# Altium schematic symbol library Library Led Yazaki.SCHLIB: 51 symbols
Pins are listed as number, name and electrical type; pins without a type are passive.

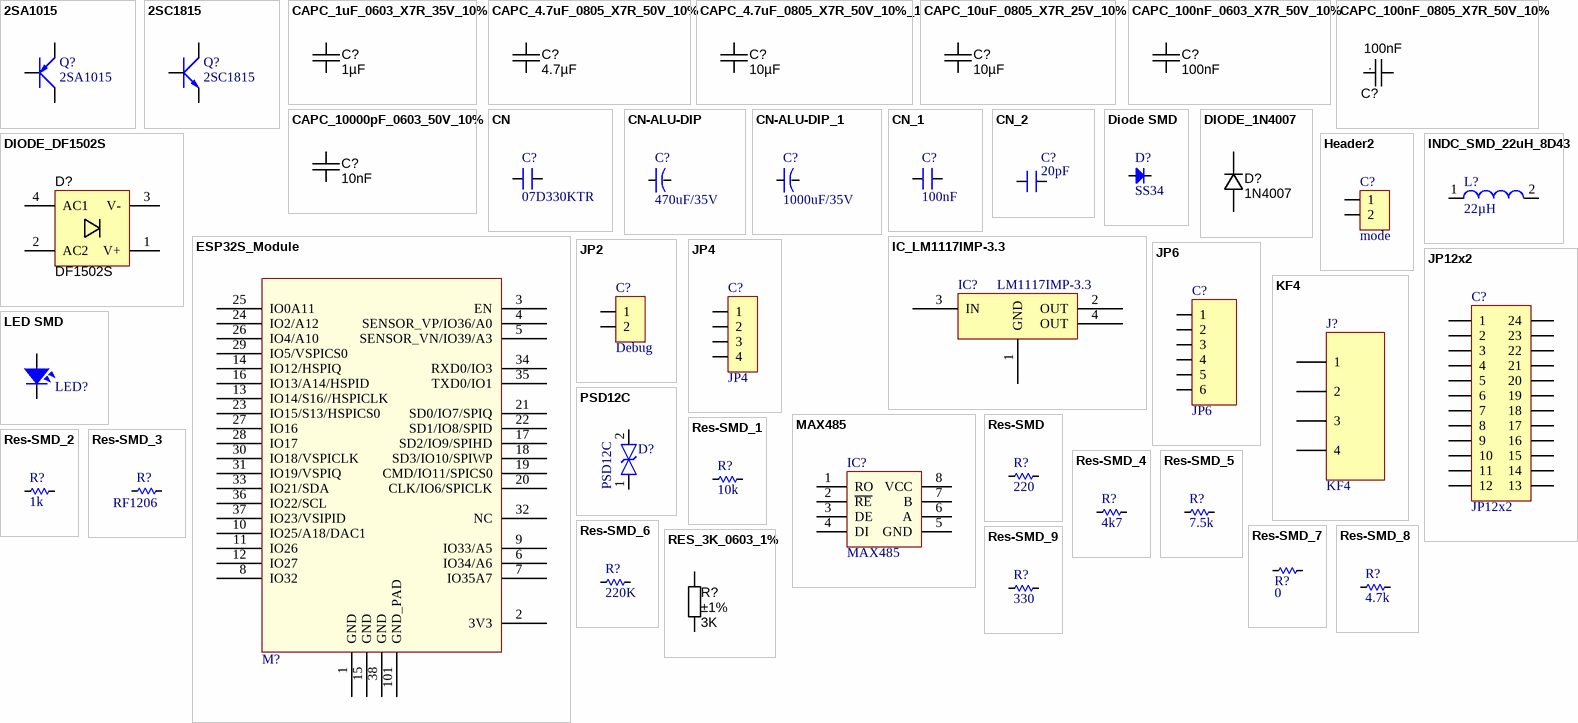
[diagram p0: symbols 2SA1015 to RES_3K_0603_1%]

## 2SA1015
designator Q?
PNP 600mW, ECB; Value: A1015
footprint TO92-123 (TO-92)
footprint SOT23-321
footprint TO92-123 - 1 (TO-92)
footprint TO92-123 - 2 (TO-92)
footprint TO92-123 - 3 (TO-92)
pins: 1 E, 2 C, 3 B

## 2SC1815
designator Q?
NPN 600mW, ECB; Value: C1815
footprint TO92-123 (TO-92)
footprint SOT23-321
footprint TO92-123 - 1 (TO-92)
footprint TO92-123 - 2 (TO-92)
footprint TO92-123 - 3 (TO-92)
pins: 1 E, 2 C, 3 B

## CAPC_1uF_0603_X7R_35V_10%
designator C?, comment 1µF
1µF ±10% 16V Ceramic Capacitor X7R 0603 (1608 Metric); Manufacturer 1: Taiyo Yuden; Manufacturer Part Number 1: GMK107AB7105KAHT; Voltage - Rated: 35V; Pcs 2: 10; Tolerance: ±10%; Operating Temperature: -55°C ~ 125°C; Package / Case: 0603 (1608 Metric); Temperature Coefficient: X7R; Ratings: AEC-Q200; Applications: Automotive; Packaging: Digi-Reel®; Supplier 1: Digi-Key; Supplier Part Number 1: 587-3352-6-ND; Supplier 2: http://www.tme.vn; Supplier Part Number 2: http://www.tme.vn/Product.aspx?id=728#page=pro_info; Price 2: 1800; Value: 1µF
footprint CAPC1608X90N (Chip Capacitor, Body 1.6x0.8mm, EIA 0603, IPC Medium Density)
pins: 1, 2

## CAPC_4.7uF_0805_X7R_50V_10%
designator C?, comment 4.7µF
4.7µF ±10% 50V Ceramic Capacitor X7R 0805 (2012 Metric); Manufacturer 1: TDK Corporation; Manufacturer Part Number: CGA4J1X7R1H475K125AE; Pcs 2: 1; Package / Case: 0805 (2012 metric); Tolerance: ±10%; Voltage - Rated: 50V; Temperature Coefficient: X7R; Ratings: AEC-Q200; Operating Temperature: -55°C ~ 125°C; Supplier 1: Digi-Key; Supplier Part Number 1: 445-181410-6-ND; Supplier 2: https://www.thegioiic.com; Supplier Part Number 2: https://www.thegioiic.com/products/tu-gom-0805-4-7uf-50v; Price 2: 680; Value: 4.7µF
footprint CAPC2012X135N (Chip Capacitor, Body 2.0x1.2mm, 0805, IPC Medium Density)
pins: 1, 2

## CAPC_4.7uF_0805_X7R_50V_10%_1
designator C?, comment 10µF
4.7µF ±10% 50V Ceramic Capacitor X7R 0805 (2012 Metric); Manufacturer 1: TDK Corporation; Manufacturer Part Number: CGA4J1X7R1H475K125AE; Pcs 2: 1; Package / Case: 0805 (2012 metric); Tolerance: ±10%; Voltage - Rated: 50V; Temperature Coefficient: X7R; Ratings: AEC-Q200; Operating Temperature: -55°C ~ 125°C; Supplier 1: Digi-Key; Supplier Part Number 1: 445-181410-6-ND; Supplier 2: https://www.thegioiic.com; Supplier Part Number 2: https://www.thegioiic.com/products/tu-gom-0805-4-7uf-50v; Price 2: 680; Value: 10µF
footprint CAPC2012X135N (Chip Capacitor, Body 2.0x1.2mm, 0805, IPC Medium Density)
pins: 1, 2

## CAPC_10uF_0805_X7R_25V_10%
designator C?, comment 10µF
10µF ±10% 25V Ceramic Capacitor X7R 1206 (3216 Metric); Manufacturer 1: Taiyo Yuden; Manufacturer Part Number: TMK316AB7106KLHT; Pcs 2: 10; Supplier 1: Digi-Key; Supplier Part Number 1: 587-3485-6-ND; Tolerance: ±10%; Operating Temperature: -55°C ~ 125°C; Package / Case: 0805 (2012 metric); Voltage - Rated: 25V; Ratings: AEC-Q200; Temperature Coefficient: X7R; Supplier 2: https://www.thegioiic.com; Supplier Part Number 2: https://www.thegioiic.com/products/tu-gom-0805-10uf-25v; Price 2: 5800; Value: 10µF
footprint CAPC2012X135N (Chip Capacitor, Body 2.0x1.2mm, 0805, IPC Medium Density)
pins: 1, 2

## CAPC_100nF_0603_X7R_50V_10%
designator C?, comment 100nF
0.1µF ±10% 50V Ceramic Capacitor X7R 0603 (1608 Metric); Manufacturer 1: TDK Corporation; Manufacturer Part Number 1: CGA3E2X7R1H104K080AA; Pcs 2: 10; Supplier 1: Digi-Key; Supplier Part Number 1: 445-5666-6-ND; Tolerance: ±10%; Operating Temperature: -55°C ~ 125°C; Package / Case: 0603 (1608 Metric); Voltage - Rated: 50V; Ratings: AEC-Q200; Temperature Coefficient: X7R; Applications: Automotive; Packaging: Digi-Reel®; Supplier 2: www.thegioiic.com; Supplier Part Number 2: https://www.thegioiic.com/products/tu-gom-0603-100nf-0-1uf-50v; Price 2: 1800; Value: 100nF
footprint CAPC1608X90N (Chip Capacitor, Body 1.6x0.8mm, EIA 0603, IPC Medium Density)
pins: 1, 2

## CAPC_100nF_0805_X7R_50V_10%
designator C?, comment 100nF
0.1µF ±10% 50V Ceramic Capacitor X7R 0805 (2012 Metric); Manufacturer 1: Samsung Electro-Mechanics; Manufacturer Part Number: CL21B104KBFXPJE; Pcs 2: 10; Supplier 1: Digi-Key; Supplier Part Number 1: 1276-CL21B104KBFXPJEDKR-ND; Tolerance: ±10%; Operating Temperature: -55°C ~ 125°C; Package / Case: 0805 (2012 metric); Voltage - Rated: 50V; Ratings: AEC-Q200; Temperature Coefficient: X7R; Price 2: 2000; Supplier 2: https://www.thegioiic.com; Supplier Part Number 2: https://www.thegioiic.com/products/tu-gom-0805-100nf-0-1uf-50v; Value: 100nF
footprint CAPC2012X135N (Chip Capacitor, Body 2.0x1.2mm, 0805, IPC Medium Density)
pins: 1, 2
text: .

## CAPC_10000pF_0603_50V_10%
designator C?, comment 10nF
10000pF ±10% 50V Ceramic Capacitor X7R 0603 (1608 Metric); Manufacturer 1: TDK Corporation; Manufacturer Part Number 1: CGA3E2X7R1H103K080AA; Pcs 2: 10; Tolerance: ±10%; Operating Temperature: -55°C ~ 125°C; Package / Case: 0603 (1608 Metric); Voltage - Rated: 50V; Ratings: AEC-Q200; Temperature Coefficient: X7R; Supplier Part Number 1: 445-5662-6-ND; Supplier 1: Digi-Key; Supplier 2: https://www.thegioiic.com; Supplier Part Number 2: https://www.thegioiic.com/products/tu-gom-0603-10nf-50v; Price 2: 1900; Value: 10nF
footprint CAPC1608X90N (Chip Capacitor, Body 1.6x0.8mm, EIA 0603, IPC Medium Density)
pins: 1, 2

## CN
designator C?, comment 07D330KTR
Value: 33pF
footprint CN1.5
footprint CN1
footprint CN2.5 (Tu pin to pin 250mil)
footprint CN3 (Cap np W 0.3)
footprint CN-SMD-0603
footprint CN-SMD-0805
footprint CN-SMD-0402
footprint CN-SMD-1206
footprint CN-SMD-2520 (TOKO INDUCTOR DFE252012 SERIES)
footprint CN-SMD-3225 (Chip Capacitor, Body 3.2x2.5mm, IPC Medium Density)
footprint CN2-T
footprint CN2-G
footprint CN0.8
footprint CN1-TA
footprint CN2-B
footprint CN2-LT
footprint CN2-O
footprint CN2-R
footprint CN2.5-BR (Tu pin to pin 250mil)
footprint CN2.5-R (Tu pin to pin 250mil)
footprint CN2.5-RV (Tu pin to pin 250mil)
footprint CN3.5 (Cap np W 0.3)
footprint CN4
footprint CN7 (Cap np W 0.3)
footprint CN3-B (Cap np W 0.3)
footprint CN7-B (Cap np W 0.3)
footprint CN7-N (Cap np W 0.3)
footprint CN7-Y (Cap np W 0.3)
footprint CN15 (Cap np W 0.3)
pins: 1, 2

## CN-ALU-DIP
designator C?, comment 470uF/35V
Capacitor (Semiconductor SIM Model); Value: 104; LatestRevisionDate: 17-Jul-2002; LatestRevisionNote: Re-released for DXP Platform.; PackageReference: C1206; Publisher: Altium Limited
footprint CA-ALU-2.54
footprint CA-ALU-5 (Polarized capacitors, Aluminum Electrolytic Capacitors, 2-Leads, Body 5x11x2x0.5)
footprint CA-ALU-5B (Polarized capacitors, Aluminum Electrolytic Capacitors, 2-Leads, Body 5x11x2x0.5)
footprint CA-ALU-5L (Polarized capacitors, Aluminum Electrolytic Capacitors, 2-Leads, Body 5x11x2x0.5)
footprint CA-ALU-5R
footprint CA-ALU-5W (Tu hoa < 22uF/16>50V)
footprint CA-ALU-6.3 (Polarized capacitors, Aluminum Electrolytic Capacitors, 2-Leads, Body 6.3x15x2.5x0.5)
footprint CA-ALU-8 (Polarized capacitors, Aluminum Electrolytic Capacitors, 2-Leads, Body 8x16x3.5x0.5)
footprint CA-ALU-8R (Polarized capacitors, Aluminum Electrolytic Capacitors, 2-Leads, Body 8x16x3.5x0.5)
footprint CA-ALU-10 (Polarized capacitors, Aluminum Electrolytic Capacitors, 2-Leads, Body 10x20x5x0.6)
footprint CA-ALU-10R (Polarized capacitors, Aluminum Electrolytic Capacitors, 2-Leads, Body 10x20x5x0.6)
footprint CA-ALU-10RL (Polarized capacitors, Aluminum Electrolytic Capacitors, 2-Leads, Body 10x20x5x0.6)
footprint CA-ALU-13BL (Polarized capacitors, Aluminum Electrolytic Capacitors, 2-Leads, Body 13x35x5x0.6)
footprint CA-ALU-13R (Polarized capacitors, Aluminum Electrolytic Capacitors, 2-Leads, Body 13x35x5x0.6)
footprint CA-ALU-16 (Polarized capacitors, Aluminum Electrolytic Capacitors, 2-Leads, Body 16x21x7.5x0.8)
footprint CA-ALU-16H (Polarized capacitors, Aluminum Electrolytic Capacitors, 2-Leads, Body 16x31.5x7.5x0.8)
footprint CA-ALU-18 (Polarized capacitors, Aluminum Electrolytic Capacitors, 2-Leads, Body 18x35.5x7.5x0.8)
footprint CA-ALU-18BL (Polarized capacitors, Aluminum Electrolytic Capacitors, 2-Leads, Body 18x35.5x7.5x0.8)
footprint CA-ALU-18RH (Polarized capacitors, Aluminum Electrolytic Capacitors, 2-Leads, Body 18x35.5x7.5x0.8)
footprint CA-ALU-25 (Polarized capacitors, Aluminum Electrolytic Capacitors, 2-Leads, Body 22x41x10x0.8)
footprint CA-ALU-28 (Polarized capacitors, Aluminum Electrolytic Capacitors, 2-Leads, Body 22x41x10x0.8)
footprint CA-ALU-30 (Polarized capacitors, Aluminum Electrolytic Capacitors, 2-Leads, Body 22x41x10x0.8)
footprint CA-ALU-35L (Polarized capacitors, Aluminum Electrolytic Capacitors, 2-Leads, Body 22x41x10x0.8)
footprint CA-ALU-4 (Polarized capacitors, Aluminum Electrolytic Capacitors, 2-Leads, Body 5x11x2x0.5)
footprint CA-ALU-6.3R (Polarized capacitors, Aluminum Electrolytic Capacitors, 2-Leads, Body 6.3x15x2.5x0.5)
footprint CA-ALU-10BL (Polarized capacitors, Aluminum Electrolytic Capacitors, 2-Leads, Body 10x20x5x0.6)
footprint CA-ALU-10GR (Polarized capacitors, Aluminum Electrolytic Capacitors, 2-Leads, Body 10x20x5x0.6)
footprint CA-ALU-18R (Polarized capacitors, Aluminum Electrolytic Capacitors, 2-Leads, Body 18x35.5x7.5x0.8)
footprint CA-ALU-28R (Polarized capacitors, Aluminum Electrolytic Capacitors, 2-Leads, Body 22x41x10x0.8)
pins: 1, 2

## CN-ALU-DIP_1
designator C?, comment 1000uF/35V
Capacitor (Semiconductor SIM Model); Value: 104; LatestRevisionDate: 17-Jul-2002; LatestRevisionNote: Re-released for DXP Platform.; PackageReference: C1206; Publisher: Altium Limited
footprint CA-ALU-2.54
footprint CA-ALU-5 (Polarized capacitors, Aluminum Electrolytic Capacitors, 2-Leads, Body 5x11x2x0.5)
footprint CA-ALU-5B (Polarized capacitors, Aluminum Electrolytic Capacitors, 2-Leads, Body 5x11x2x0.5)
footprint CA-ALU-5L (Polarized capacitors, Aluminum Electrolytic Capacitors, 2-Leads, Body 5x11x2x0.5)
footprint CA-ALU-5R
footprint CA-ALU-5W (Tu hoa < 22uF/16>50V)
footprint CA-ALU-6.3 (Polarized capacitors, Aluminum Electrolytic Capacitors, 2-Leads, Body 6.3x15x2.5x0.5)
footprint CA-ALU-8 (Polarized capacitors, Aluminum Electrolytic Capacitors, 2-Leads, Body 8x16x3.5x0.5)
footprint CA-ALU-8R (Polarized capacitors, Aluminum Electrolytic Capacitors, 2-Leads, Body 8x16x3.5x0.5)
footprint CA-ALU-10 (Polarized capacitors, Aluminum Electrolytic Capacitors, 2-Leads, Body 10x20x5x0.6)
footprint CA-ALU-10R (Polarized capacitors, Aluminum Electrolytic Capacitors, 2-Leads, Body 10x20x5x0.6)
footprint CA-ALU-10RL (Polarized capacitors, Aluminum Electrolytic Capacitors, 2-Leads, Body 10x20x5x0.6)
footprint CA-ALU-13BL (Polarized capacitors, Aluminum Electrolytic Capacitors, 2-Leads, Body 13x35x5x0.6)
footprint CA-ALU-13R (Polarized capacitors, Aluminum Electrolytic Capacitors, 2-Leads, Body 13x35x5x0.6)
footprint CA-ALU-16 (Polarized capacitors, Aluminum Electrolytic Capacitors, 2-Leads, Body 16x21x7.5x0.8)
footprint CA-ALU-16H (Polarized capacitors, Aluminum Electrolytic Capacitors, 2-Leads, Body 16x31.5x7.5x0.8)
footprint CA-ALU-18 (Polarized capacitors, Aluminum Electrolytic Capacitors, 2-Leads, Body 18x35.5x7.5x0.8)
footprint CA-ALU-18BL (Polarized capacitors, Aluminum Electrolytic Capacitors, 2-Leads, Body 18x35.5x7.5x0.8)
footprint CA-ALU-18RH (Polarized capacitors, Aluminum Electrolytic Capacitors, 2-Leads, Body 18x35.5x7.5x0.8)
footprint CA-ALU-25 (Polarized capacitors, Aluminum Electrolytic Capacitors, 2-Leads, Body 22x41x10x0.8)
footprint CA-ALU-28 (Polarized capacitors, Aluminum Electrolytic Capacitors, 2-Leads, Body 22x41x10x0.8)
footprint CA-ALU-30 (Polarized capacitors, Aluminum Electrolytic Capacitors, 2-Leads, Body 22x41x10x0.8)
footprint CA-ALU-35L (Polarized capacitors, Aluminum Electrolytic Capacitors, 2-Leads, Body 22x41x10x0.8)
footprint CA-ALU-4 (Polarized capacitors, Aluminum Electrolytic Capacitors, 2-Leads, Body 5x11x2x0.5)
footprint CA-ALU-6.3R (Polarized capacitors, Aluminum Electrolytic Capacitors, 2-Leads, Body 6.3x15x2.5x0.5)
footprint CA-ALU-10BL (Polarized capacitors, Aluminum Electrolytic Capacitors, 2-Leads, Body 10x20x5x0.6)
footprint CA-ALU-10GR (Polarized capacitors, Aluminum Electrolytic Capacitors, 2-Leads, Body 10x20x5x0.6)
footprint CA-ALU-18R (Polarized capacitors, Aluminum Electrolytic Capacitors, 2-Leads, Body 18x35.5x7.5x0.8)
footprint CA-ALU-28R (Polarized capacitors, Aluminum Electrolytic Capacitors, 2-Leads, Body 22x41x10x0.8)
pins: 1, 2

## CN_1
designator C?, comment 100nF
Value: 33pF
footprint CN1.5
footprint CN1
footprint CN2.5 (Tu pin to pin 250mil)
footprint CN3 (Cap np W 0.3)
footprint CN-SMD-0603
footprint CN-SMD-0805
footprint CN-SMD-0402
footprint CN-SMD-1206
footprint CN-SMD-2520 (TOKO INDUCTOR DFE252012 SERIES)
footprint CN-SMD-3225 (Chip Capacitor, Body 3.2x2.5mm, IPC Medium Density)
footprint CN2-T
footprint CN2-G
footprint CN0.8
footprint CN1-TA
footprint CN2-B
footprint CN2-LT
footprint CN2-O
footprint CN2-R
footprint CN2.5-BR (Tu pin to pin 250mil)
footprint CN2.5-R (Tu pin to pin 250mil)
footprint CN2.5-RV (Tu pin to pin 250mil)
footprint CN3.5 (Cap np W 0.3)
footprint CN4
footprint CN7 (Cap np W 0.3)
footprint CN3-B (Cap np W 0.3)
footprint CN7-B (Cap np W 0.3)
footprint CN7-N (Cap np W 0.3)
footprint CN7-Y (Cap np W 0.3)
footprint CN15 (Cap np W 0.3)
pins: 1, 2

## CN_2
designator C?, comment 20pF
Value: 33pF
footprint CN1.5
footprint CN1
footprint CN2.5 (Tu pin to pin 250mil)
footprint CN3 (Cap np W 0.3)
footprint CN-SMD-0603
footprint CN-SMD-0805
footprint CN-SMD-0402
footprint CN-SMD-1206
footprint CN-SMD-2520 (TOKO INDUCTOR DFE252012 SERIES)
footprint CN-SMD-3225 (Chip Capacitor, Body 3.2x2.5mm, IPC Medium Density)
footprint CN2-T
footprint CN2-G
footprint CN0.8
footprint CN1-TA
footprint CN2-B
footprint CN2-LT
footprint CN2-O
footprint CN2-R
footprint CN2.5-BR (Tu pin to pin 250mil)
footprint CN2.5-R (Tu pin to pin 250mil)
footprint CN2.5-RV (Tu pin to pin 250mil)
footprint CN3.5 (Cap np W 0.3)
footprint CN4
footprint CN7 (Cap np W 0.3)
footprint CN3-B (Cap np W 0.3)
footprint CN7-B (Cap np W 0.3)
footprint CN7-N (Cap np W 0.3)
footprint CN7-Y (Cap np W 0.3)
footprint CN15 (Cap np W 0.3)
pins: 1, 2

## Diode SMD
designator D?, comment SS34
Default Diode; Code - JEDEC: DO-214-AB; Value: 1N5007; Published: 8-Jun-2000; Revision: July-2002: Re-released for DXP Platform.; Publisher: Altium Limited
footprint DIO-SMD-106
footprint DIO-SMD-123
footprint DIO-SMD-A
footprint DIO-SMD-B (Magnetic-Core Inductor with Winding Polarity Marking; 2 Leads)
footprint DIO-SMD-216AA (DO216AA ST-MITE)
footprint DIO-SMD-222AA (DO216AA ST-MITE)
pins: 1 A, 2 K

## DIODE_1N4007
designator D?, comment 1N4007
Diode  Standard Rectifier SMD 1000V 1A SMA; Manufacturer 1: Micro Commercial Co; Manufacturer Part Number 1: SM4007PL-TP; Speed: Standard Recovery >500ns, > 200mA (Io); Ratings: 1000V; 1A; Pcs 2: 1; Package / Case: DO-214AC, SMA; Diode Type: Standard; Mounting Type: Surface Mount; Supplier 1: Digi-Key; Supplier Part Number 1: SM4007PL-TPMSDKR-ND; Supplier 2: https://www.thegioiic.com; Supplier Part Number 2: https://www.thegioiic.com/products/1n4007-m7-diode-chinh-luu-1a-1kv; Price 2: 1000
footprint DO-214AC (JEDEC DO214 variation AC. SMA)
pins: A, C

## DIODE_DF1502S
designator D?, comment DF1502S
Bridge Rectifier Single Phase Standard 200V Surface Mount DF-S; Manufacturer 1: Diodes Incorporated; Manufacturer Part Number 1: DF1502S-T; Ratings: 200V; 1.5A; Pcs 2: 1; Package / Case: 4-SMD, Gull Wing; Diode Type: Standard; Mounting Type: Surface Mount; Supplier 1: Digi-Key; Supplier Part Number 1: DF1502SDIDKR-ND; Supplier 2: https://www.thegioiic.com; Supplier Part Number 2: https://www.thegioiic.com/products/df1502s-cau-chinh-luu-200v-1-5a; Price 2: 3500
footprint DIODE_DF_S
footprint DIODE_DF_S
pins: 1 V+, 2 AC2, 3 V-, 4 AC1

## ESP32S_Module
designator M?  (value not drawn)
Esp-32S; Datasheet: https://espressif.com/sites/default/files/documentation/esp_wroom_32_datasheet_en.pdf
footprint ESP32S_W (Esp32S Module wide for hand soldering)
footprint ESP32S
pins: 1 GND (power), 2 3V3 (power), 3 EN (power), 4 SENSOR_VP/IO36/A0, 5 SENSOR_VN/IO39/A3, 6 IO34/A6, 7 IO35A7, 8 IO32, 9 IO33/A5, 10 IO25/A18/DAC1, 11 IO26, 12 IO27, 13 IO14/S16//HSPICLK, 14 IO12/HSPIQ, 15 GND (power), 16 IO13/A14/HSPID, 17 SD2/IO9/SPIHD, 18 SD3/IO10/SPIWP, 19 CMD/IO11/SPICS0, 20 CLK/IO6/SPICLK, 21 SD0/IO7/SPIQ, 22 SD1/IO8/SPID, 23 IO15/S13/HSPICS0, 24 IO2/A12, 25 IO0A11, 26 IO4/A10, 27 IO16, 28 IO17, 29 IO5/VSPICS0, 30 IO18/VSPICLK, 31 IO19/VSPIQ, 32 NC, 33 IO21/SDA, 34 RXD0/IO3, 35 TXD0/IO1, 36 IO22/SCL, 37 IO23/VSIPID, 38 GND (power), 101 GND_PAD (power)

## Header2
designator C?, comment mode
Header IDC, 2 x 1 Pin Vertical 2.54mm Pitch (Non-Boxed, Male); Manufacturer: W¨¹rth Elektronik eiSos GmbH; partNo: 613002143121; ComponentLink1 Description: Manufacturer; ComponentLink2 Description: Datasheet; NoPins: 02; Created Date: 29 March 2013; ComponentLink1URL: http://www.we-online.com; ComponentLink2URL: http://katalog.we-online.de/em/datasheet/6130xx143121.pdf; Created by: Karrer Zheng
footprint HDR2 (Connector; Header; 2 Position)
footprint Header2 (CON2)
pins: 1, 2

## IC_LM1117IMP-3.3
designator IC?, comment LM1117IMP-3.3
Linear Voltage Regulator IC  1 Output  800mA SOT-223; Manufacturer: Texas Instruments; Manufacturer Part Number: LM1117IMP-3.3/NOPB; Voltage - Input (Max): 15V; Voltage Dropout (Max): 1.2V @ 800mA; Protection Features: Over Current, Over Temperature; PSRR: 75dB (120Hz); Pcs 2: 1; Supplier 1: Digi-Key; Supplier Part Number 1: LM1117IMP-3.3/NOPBDKR-ND; Current - Output: 800mA; Operating Temperature: -40°C ~ 125°C; Price 2: 11000; Supplier Device Package: SOT-223; Supplier 2: https://www.thegioiic.com; Supplier Part Number 2: https://www.thegioiic.com/products/lm1117imp-3-3-nopb-ic-on-ap-3-3v-800ma
footprint SOT223 (SOT223 /SC-73)
pins: 1 GND, 2 OUT, 3 IN, 4 OUT

## INDC_SMD_22uH_8D43
designator L?, comment 22µH
22µH Shielded Wirewound Inductor 950mA 380mOhm Max Nonstandard; Manufacturer 1: Yageo; Current Rating (Amps): 3.25 A; Ratings: None AEC-Q200; Pcs 2: 1; Supplier 1: Digi-Key; Operating Temperature: -40°C ~ 125°C; Value: 22µH; Supplier 2: https://www.thegioiic.com/; Supplier Part Number 2: https://www.thegioiic.com/products/cuon-cam-dan-smd-8d43-220-22uh-3-25a; Price 2: 2000
footprint IND_COIL_8D43 (8.3x8.3x4.3)
pins: 1, 2

## JP2
designator C?, comment Debug
WR-PHD 2.54 mm Angled Socket Header; Manufacturer: W¨¹rth Elektronik eiSos GmbH; partNo: 613002143121; ComponentLink1 Description: Manufacturer; ComponentLink2 Description: Datasheet; NoPins: 02; Created Date: 29 March 2013; ComponentLink1URL: http://www.we-online.com; ComponentLink2URL: http://katalog.we-online.de/em/datasheet/6130xx143121.pdf; Created by: Karrer Zheng
footprint JP2-C1T (2 row, straight, gold plating)
footprint JP2-CLOSED
footprint JP2-C1C (02p 1 row Right angle)
footprint JP2-D1C (2 pins, 1 row, right angled, gold plating)
footprint JP2-D1T (2 pins, 1 row, straight, gold plating)
pins: 1, 2

## JP4
designator C?
WR-PHD 2.54 mm Angled Socket Header; Manufacturer: W¨¹rth Elektronik eiSos GmbH; partNo: 613004143121; ComponentLink1 Description: Manufacturer; ComponentLink2 Description: Datasheet; NoPins: 04; Created Date: 29 March 2013; ComponentLink1URL: http://www.we-online.com; ComponentLink2URL: http://katalog.we-online.de/em/datasheet/6130xx143121.pdf; Created by: Karrer Zheng
footprint JP4-C1T (4 row, straight, gold plating)
footprint JP4-D1C (4 pins, 1 row, right angled, gold plating)
footprint JP4-C1C (04p 1 row Right angle)
footprint JP4-D1C (4 pins, 1 row, right angled, gold plating)
pins: 1, 2, 3, 4

## JP6
designator C?
WR-PHD 2.54 mm Angled Socket Header; Manufacturer: W¨¹rth Elektronik eiSos GmbH; partNo: 613006143121; ComponentLink1 Description: Manufacturer; ComponentLink2 Description: Datasheet; NoPins: 06; Created Date: 29 March 2013; ComponentLink1URL: http://www.we-online.com; ComponentLink2URL: http://katalog.we-online.de/em/datasheet/6130xx143121.pdf; Created by: Karrer Zheng
footprint JP6-C1T (6 row, straight, gold plating)
footprint JP6-D1C (6 pins, 1 row, right angled, gold plating)
footprint JP6-C1C (06p 1 row Right angle)
footprint JP6-D1T (6 pins, 1 row, straight, gold plating)
pins: 1, 2, 3, 4, 5, 6

## JP12x2
designator C?
WR-PHD 2.54 mm Dual Socket Header; Manufacturer: W¨¹rth Elektronik eiSos GmbH; partNo: 61302421821; ComponentLink1 Description: Manufacturer; ComponentLink2 Description: Datasheet; NoPins: 24; Created Date: 29 March 2013; ComponentLink1URL: http://www.we-online.com; ComponentLink2URL: http://katalog.we-online.de/em/datasheet/6130xx21821.pdf; Created by: Karrer Zheng
footprint JP12-C2T (24 pins, dual row, straight, gold plating)
footprint JP12-C2C (24p 2 rows Right angle)
footprint JP12-D2T (24 pins, dual pin, straight, gold plating)
footprint JP12-D2C (24 pins, dual row, right angled, gold plating)
pins: 1, 2, 3, 4, 5, 6, 7, 8, 9, 10, 11, 12, 13, 14, 15, 16, 17, 18, 19, 20, 21, 22, 23, 24

## KF4
designator J?
Manufacturer: W¨¹rth Elektronik eiSos GmbH; PartNo: 691133710004; ComponentLink1 Description: Manufacturer; ComponentLink2 Description: Datasheet; NoPins: 4; ComponentLink1 URL: http://www.we-online.com; ComponentLink2 URL: http://katalog.we-online.de/em/datasheet/6911337100xx.pdf; Created By: Baojun Chen; Created Date: 4-Aug-15
footprint KF4-5.08
footprint KF4-10 (Serie 1368 - 10.00 mm _ 4 pins)
footprint KF4-5 (Serie 1337 - 5.00 mm_4 pins)
footprint KF4-8.5
footprint KF4-5.08T (Header 4, 4 pin, hight 300mil, Pin to Pin 200, Colour Green)
footprint KF4-7.62
pins: 1, 2, 3, 4

## LED SMD
designator LED?, comment LED  (value not drawn)
Value: LED 3 - 5 ly 2 Colour
footprint LED 3512
footprint LED-0805-Blue
footprint LED-0805-Green
footprint LED-0805-Orange
footprint LED-1206-Blue (Compoment SMD 120x60mil)
footprint LED-0805-Yellow
footprint LED-0805-Red
footprint LED-1206-Green
footprint LED-1206-Orange
footprint LED-1206-Red
footprint LED-1206-Yellow
footprint LED-BLUE 0805
footprint LED-GREEN-0805
footprint LED-ORANGE-0805
footprint LED-RED-0805
footprint LED-WHITE-0805
footprint LED-YELLOW-0805
pins: 1, 2

## MAX485
designator IC?
RS232 - RS485 (Same sn75176)
footprint DIP8
footprint SO8 (SOIC, 8-Leads, Body 4.9x3.9mm, Pitch 1.27mm, IPC High Density)
pins: 1 RO "Receiver Output", 2 ~{RE} "Receiver Enable Output", 3 DE "Driver Enable Output", 4 DI "Driver Input", 5 GND, 6 A "RI & NoneDO", 7 B "NoneDI", 8 VCC

## PSD12C
designator D?
diode tvs
footprint PSD12C (Molded Diode, 2-Leads, Body 2.60x1.35mm, IPC Medium Density)
pins: 1, 2

## Res-SMD
designator R?, comment 220
Resistor; Manufacturer: Generic Components; Class: Passive; Published: 08/06/2000; Publisher: Altium Hobart Technology Centre
footprint RES-SMD-0101
footprint RES-SMD-0201
footprint RES-SMD-0603
footprint RES-SMD-0805
footprint RES-SMD-1206
footprint RES-SMD-1210 (Chip Capacitor, Body 3.2x2.5mm, IPC Medium Density)
footprint RES-SMD-1812 (Chip Capacitor, Body 3.2x2.5mm, IPC Medium Density)
footprint RES-SMD-2010 (Chip Capacitor, Body 3.2x2.5mm, IPC Medium Density)
footprint RES-SMD-2512 (Chip Capacitor, Body 3.2x2.5mm, IPC Medium Density)
footprint RES-SMD-0402
pins: 1, 2

## Res-SMD_1
designator R?, comment 10k
Resistor; Manufacturer: Generic Components; Class: Passive; Published: 08/06/2000; Publisher: Altium Hobart Technology Centre
footprint RES-SMD-0101
footprint RES-SMD-0201
footprint RES-SMD-0603
footprint RES-SMD-0805
footprint RES-SMD-1206
footprint RES-SMD-1210 (Chip Capacitor, Body 3.2x2.5mm, IPC Medium Density)
footprint RES-SMD-1812 (Chip Capacitor, Body 3.2x2.5mm, IPC Medium Density)
footprint RES-SMD-2010 (Chip Capacitor, Body 3.2x2.5mm, IPC Medium Density)
footprint RES-SMD-2512 (Chip Capacitor, Body 3.2x2.5mm, IPC Medium Density)
footprint RES-SMD-0402
pins: 1, 2

## Res-SMD_2
designator R?, comment 1k
Resistor; Manufacturer: Generic Components; Class: Passive; Published: 08/06/2000; Publisher: Altium Hobart Technology Centre
footprint RES-SMD-0101
footprint RES-SMD-0201
footprint RES-SMD-0603
footprint RES-SMD-0805
footprint RES-SMD-1206
footprint RES-SMD-1210 (Chip Capacitor, Body 3.2x2.5mm, IPC Medium Density)
footprint RES-SMD-1812 (Chip Capacitor, Body 3.2x2.5mm, IPC Medium Density)
footprint RES-SMD-2010 (Chip Capacitor, Body 3.2x2.5mm, IPC Medium Density)
footprint RES-SMD-2512 (Chip Capacitor, Body 3.2x2.5mm, IPC Medium Density)
footprint RES-SMD-0402
pins: 1, 2

## Res-SMD_3
designator R?, comment RF1206
Resistor; Manufacturer: Generic Components; Class: Passive; Published: 08/06/2000; Publisher: Altium Hobart Technology Centre
footprint RES-SMD-0101
footprint RES-SMD-0201
footprint RES-SMD-0603
footprint RES-SMD-0805
footprint RES-SMD-1206
footprint RES-SMD-1210 (Chip Capacitor, Body 3.2x2.5mm, IPC Medium Density)
footprint RES-SMD-1812 (Chip Capacitor, Body 3.2x2.5mm, IPC Medium Density)
footprint RES-SMD-2010 (Chip Capacitor, Body 3.2x2.5mm, IPC Medium Density)
footprint RES-SMD-2512 (Chip Capacitor, Body 3.2x2.5mm, IPC Medium Density)
footprint RES-SMD-0402
pins: 1, 2

## Res-SMD_4
designator R?, comment 4k7
Resistor; Manufacturer: Generic Components; Class: Passive; Published: 08/06/2000; Publisher: Altium Hobart Technology Centre
footprint RES-SMD-0101
footprint RES-SMD-0201
footprint RES-SMD-0603
footprint RES-SMD-0805
footprint RES-SMD-1206
footprint RES-SMD-1210 (Chip Capacitor, Body 3.2x2.5mm, IPC Medium Density)
footprint RES-SMD-1812 (Chip Capacitor, Body 3.2x2.5mm, IPC Medium Density)
footprint RES-SMD-2010 (Chip Capacitor, Body 3.2x2.5mm, IPC Medium Density)
footprint RES-SMD-2512 (Chip Capacitor, Body 3.2x2.5mm, IPC Medium Density)
footprint RES-SMD-0402
pins: 1, 2

## Res-SMD_5
designator R?, comment 7.5k
Resistor; Manufacturer: Generic Components; Class: Passive; Published: 08/06/2000; Publisher: Altium Hobart Technology Centre
footprint RES-SMD-0101
footprint RES-SMD-0201
footprint RES-SMD-0603
footprint RES-SMD-0805
footprint RES-SMD-1206
footprint RES-SMD-1210 (Chip Capacitor, Body 3.2x2.5mm, IPC Medium Density)
footprint RES-SMD-1812 (Chip Capacitor, Body 3.2x2.5mm, IPC Medium Density)
footprint RES-SMD-2010 (Chip Capacitor, Body 3.2x2.5mm, IPC Medium Density)
footprint RES-SMD-2512 (Chip Capacitor, Body 3.2x2.5mm, IPC Medium Density)
footprint RES-SMD-0402
pins: 1, 2

## Res-SMD_6
designator R?, comment 220K
Resistor; Manufacturer: Generic Components; Class: Passive; Published: 08/06/2000; Publisher: Altium Hobart Technology Centre
footprint RES-SMD-0101
footprint RES-SMD-0201
footprint RES-SMD-0603
footprint RES-SMD-0805
footprint RES-SMD-1206
footprint RES-SMD-1210 (Chip Capacitor, Body 3.2x2.5mm, IPC Medium Density)
footprint RES-SMD-1812 (Chip Capacitor, Body 3.2x2.5mm, IPC Medium Density)
footprint RES-SMD-2010 (Chip Capacitor, Body 3.2x2.5mm, IPC Medium Density)
footprint RES-SMD-2512 (Chip Capacitor, Body 3.2x2.5mm, IPC Medium Density)
footprint RES-SMD-0402
pins: 1, 2

## Res-SMD_7
designator R?, comment 0
Resistor; Manufacturer: Generic Components; Class: Passive; Published: 08/06/2000; Publisher: Altium Hobart Technology Centre
footprint RES-SMD-0101
footprint RES-SMD-0201
footprint RES-SMD-0603
footprint RES-SMD-0805
footprint RES-SMD-1206
footprint RES-SMD-1210 (Chip Capacitor, Body 3.2x2.5mm, IPC Medium Density)
footprint RES-SMD-1812 (Chip Capacitor, Body 3.2x2.5mm, IPC Medium Density)
footprint RES-SMD-2010 (Chip Capacitor, Body 3.2x2.5mm, IPC Medium Density)
footprint RES-SMD-2512 (Chip Capacitor, Body 3.2x2.5mm, IPC Medium Density)
footprint RES-SMD-0402
pins: 1, 2

## Res-SMD_8
designator R?, comment 4.7k
Resistor; Manufacturer: Generic Components; Class: Passive; Published: 08/06/2000; Publisher: Altium Hobart Technology Centre
footprint RES-SMD-0101
footprint RES-SMD-0201
footprint RES-SMD-0603
footprint RES-SMD-0805
footprint RES-SMD-1206
footprint RES-SMD-1210 (Chip Capacitor, Body 3.2x2.5mm, IPC Medium Density)
footprint RES-SMD-1812 (Chip Capacitor, Body 3.2x2.5mm, IPC Medium Density)
footprint RES-SMD-2010 (Chip Capacitor, Body 3.2x2.5mm, IPC Medium Density)
footprint RES-SMD-2512 (Chip Capacitor, Body 3.2x2.5mm, IPC Medium Density)
footprint RES-SMD-0402
pins: 1, 2

## Res-SMD_9
designator R?, comment 330
Resistor; Manufacturer: Generic Components; Class: Passive; Published: 08/06/2000; Publisher: Altium Hobart Technology Centre
footprint RES-SMD-0101
footprint RES-SMD-0201
footprint RES-SMD-0603
footprint RES-SMD-0805
footprint RES-SMD-1206
footprint RES-SMD-1210 (Chip Capacitor, Body 3.2x2.5mm, IPC Medium Density)
footprint RES-SMD-1812 (Chip Capacitor, Body 3.2x2.5mm, IPC Medium Density)
footprint RES-SMD-2010 (Chip Capacitor, Body 3.2x2.5mm, IPC Medium Density)
footprint RES-SMD-2512 (Chip Capacitor, Body 3.2x2.5mm, IPC Medium Density)
footprint RES-SMD-0402
pins: 1, 2

## RES_3K_0603_1%
designator R?, comment value 3K  Tolerance: ±1%  (hidden comment: 3K_0603_0.5%)
3 kOhms ±1% 0.1W, 1/10W Chip Resistor 0603 (1608 Metric) Automotive AEC-Q200 Thick Film; Manufacturer: Stackpole Electronics Inc; Manufacturer Part Number: RMCF0603FT3K00; Temperature Coefficient: ±100ppm/°C; Pcs 2: 50; Package / Case: 0603 (1608 Metric); Power (Watts): 1/10W; Supplier 1: Digi-Key; Supplier Part Number 1: RMCF0603FT3K00DKR-ND; Ratings: AEC-Q200; Supplier Part Number 2: https://www.thegioiic.com/products/dien-tro-3-kohm-0603-1; Supplier 2: www.thegioiic.com; Operating Temperature: -55°C ~ 155°C; Price 2: 2000
footprint RESC1608X55N (Chip Resistor, Body 1.6x0.8mm, EIA 0603, IPC Medium Density)
pins: 1, 2

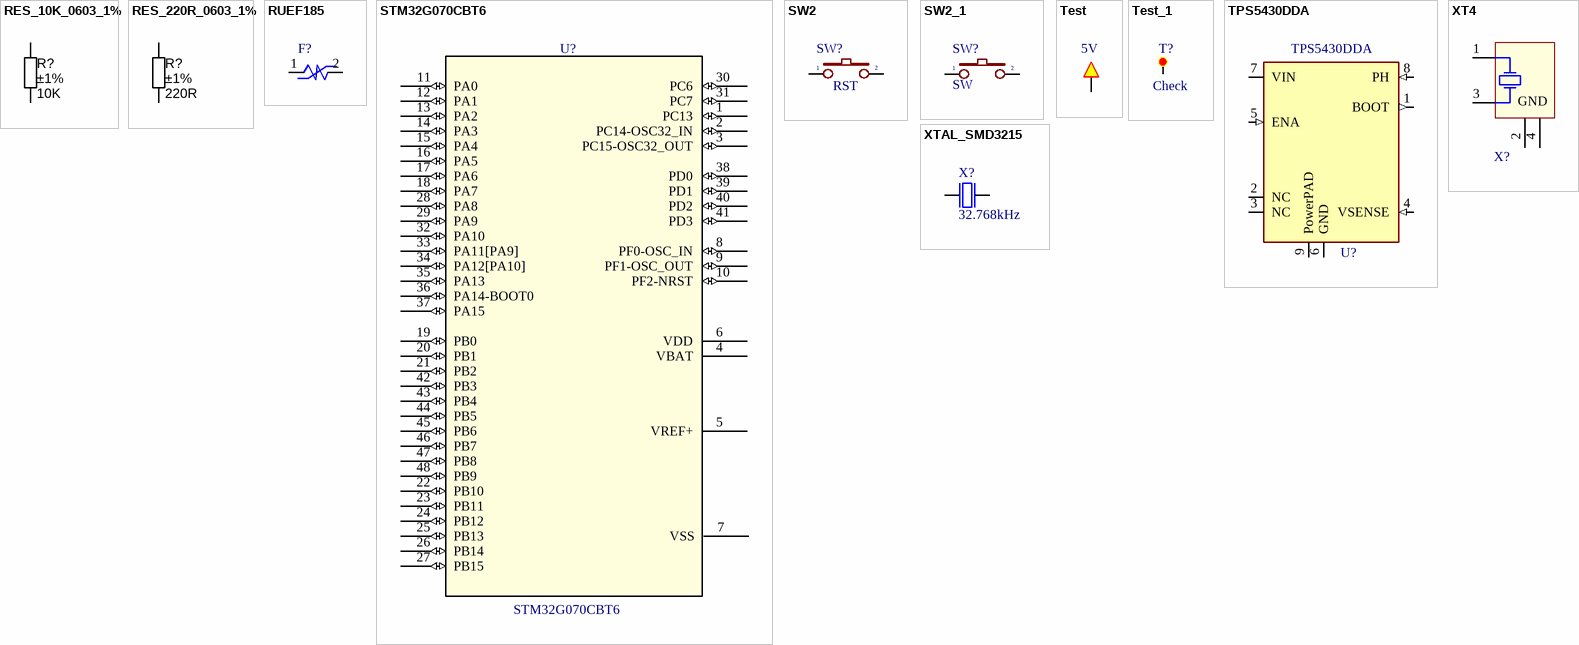
[diagram p1: symbols RES_10K_0603_1% to XTAL_SMD3215]

## RES_10K_0603_1%
designator R?, comment value 10K  Tolerance: ±1%  (hidden comment: 10K_0603_1%)
10 kOhms ±1% 0.1W, 1/10W Chip Resistor 0603 (1608 Metric) Anti-Sulfur, Automotive AEC-Q200, Moisture Resistant Thin Film; Manufacturer: Stackpole Electronics Inc; Manufacturer Part Number: RMCF0603FT10K0; Temperature Coefficient: ±100ppm/°C; Pcs 2: 50; Package / Case: 0603 (1608 Metric); Power (Watts): 1/10W; Supplier 1: Digi-Key; Supplier Part Number 1: RMCF0603FT10K0DKR-ND; Ratings: Automotive AEC-Q200; Operating Temperature: -55°C ~ 155°C; Supplier 2: www.thegioiic.com; Supplier Part Number 2: https://www.thegioiic.com/products/dien-tro-10-kohm-0603-1; Price 2: 2000
footprint RESC1608X55N (Chip Resistor, Body 1.6x0.8mm, EIA 0603, IPC Medium Density)
pins: 1, 2

## RES_220R_0603_1%
designator R?, comment value 220R  Tolerance: ±1%  (hidden comment: 220R_0603_1%)
220 Ohms ±1% 0.1W, 1/10W Chip Resistor 0603 (1608 Metric) Automotive AEC-Q200 Thick Film; Manufacturer: Stackpole Electronics Inc; Manufacturer Part Number: RMCF0603FT220R; Temperature Coefficient: ±100ppm/°C; Pcs 2: 50; Package / Case: 0603 (1608 Metric); Ratings: AEC-Q200; Supplier 1: Digi-Key; Supplier Part Number 1: RMCF0603FT220RDKR-ND; Power (Watts): 0.1W, 1/10W; Operating Temperature: -55°C ~ 155°C; Composition: Thick Film; Supplier 2: www.thegioiic.com; Supplier Part Number 2: https://www.thegioiic.com/products/dien-tro-220-ohm-0603-1; Price 2: 2000
footprint RESC1608X55N (Chip Resistor, Body 1.6x0.8mm, EIA 0603, IPC Medium Density)
pins: 1, 2

## RUEF185
designator F?  (value not drawn)
footprint RUEF165
pins: 1, 2

## STM32G070CBT6
designator U?
No Description Available; Vendor: STMicroelectronics; Built_By: EMA_UL_Team; SourceLibrary: Updates_to_database_2020-10-19; Manufacturer_Part_Number: STM32G070CBT6; Copyright: Copyright (C) 2018 Accelerated Designs. All rights reserved; RefDes: RefDes; Type: DEV
footprint STM32G070CBT6
pins: 1 PC13 (io), 2 PC14-OSC32_IN (io), 3 PC15-OSC32_OUT (io), 4 VBAT (power), 5 VREF+ (power), 6 VDD (power), 7 VSS (power), 8 PF0-OSC_IN (io), 9 PF1-OSC_OUT (io), 10 PF2-NRST (io), 11 PA0 (io), 12 PA1 (io), 13 PA2 (io), 14 PA3 (io), 15 PA4 (io), 16 PA5 (io), 17 PA6 (io), 18 PA7 (io), 19 PB0 (io), 20 PB1 (io), 21 PB2 (io), 22 PB10 (io), 23 PB11 (io), 24 PB12 (io), 25 PB13 (io), 26 PB14 (io), 27 PB15 (io), 28 PA8 (io), 29 PA9 (io), 30 PC6 (io), 31 PC7 (io), 32 PA10 (io), 33 PA11[PA9] (io), 34 PA12[PA10] (io), 35 PA13 (io), 36 PA14-BOOT0 (io), 37 PA15 (io), 38 PD0 (io), 39 PD1 (io), 40 PD2 (io), 41 PD3 (io), 42 PB3 (io), 43 PB4 (io), 44 PB5 (io), 45 PB6 (io), 46 PB7 (io), 47 PB8 (io), 48 PB9 (io)

## SW2
designator SW?, comment RST
Switch button 2 pin; Value: SW chip 2 pin
footprint SW1-SMD
footprint SW-DIP1
footprint SW-DIP1-1 (01p, 2.54mm Pitch, Horizontal, Box Type, THT, flat Actuator, red, without Tape, Tube)
footprint SW1-DIP
pins: 1, 2

## SW2_1
designator SW?, comment SW
Switch button 2 pin; Value: SW chip 2 pin
footprint SW1-SMD
footprint SW-DIP1
footprint SW-DIP1-1 (01p, 2.54mm Pitch, Horizontal, Box Type, THT, flat Actuator, red, without Tape, Tube)
footprint SW1-DIP
pins: 1, 2

## Test
designator Check?, comment 5V
WR-PHD 2.54 mm Angled Socket Header; Manufacturer: W¨¹rth Elektronik eiSos GmbH; partNo: 613002143121; ComponentLink1 Description: Manufacturer; ComponentLink2 Description: Datasheet; NoPins: 02; Created Date: 29 March 2013; ComponentLink1URL: http://www.we-online.com; ComponentLink2URL: http://katalog.we-online.de/em/datasheet/6130xx143121.pdf; Created by: Karrer Zheng
footprint Test (1pins, 1 row, straight, gold plating)
footprint SMD_1.5
footprint SMD_1
footprint SMD-2
pins: 1

## Test_1
designator T?, comment Check
WR-PHD 2.54 mm Angled Socket Header; Manufacturer: W¨¹rth Elektronik eiSos GmbH; partNo: 613002143121; ComponentLink1 Description: Manufacturer; ComponentLink2 Description: Datasheet; NoPins: 02; Created Date: 29 March 2013; ComponentLink1URL: http://www.we-online.com; ComponentLink2URL: http://katalog.we-online.de/em/datasheet/6130xx143121.pdf; Created by: Karrer Zheng
footprint SMD_1.5
footprint SMD_1
footprint SMD-2
pins: 1

## TPS5430DDA
designator U?
footprint TPS5430
pins: 1 BOOT (out), 2 NC, 3 NC, 4 VSENSE (in), 5 ENA (in), 6 GND (power), 7 VIN (power), 8 PH (in), 9 PowerPAD (power)

## XT4
designator X?  (value not drawn)
Crystal, 16 MHz, -30 to 85 degC, 3.2 x 2.5 x 0.9 mm SMD; Value: 4Mhz
footprint XT4-SMD
footprint XT4
footprint XT4-16.000MHz-4_V (Hand Drawn, 4-Leads, Body 3.2x2.5 mm)
pins: 1 XTAL, 2 GND (power), 3 XTAL, 4 GND (power)

## XTAL_SMD3215
designator X?, comment 32.768kHz
XTAL SMD 3215, 32.768kHz, Cl=9pF, Total Tol: ±50ppm; Part Number: XTAL_SMD3215_32.768kHz_9pF_General; Manufacturer: *; Manufacturer Part Number: *; LatestRevisionDate: 2016-08-19; Pin Count: 2; Publisher: Nordic Semiconductor; Published: 2016-08-19; Value: 32.768kHz; Footprint Doc: XTAL_3215
footprint XTAL_3215
pins: 1 inp, 2 out